# EAGLE library part ADTT1-1 (library NewSDR)
Minicircuits ADT Series Surface Mount Transformer with CT Primary and Secondary
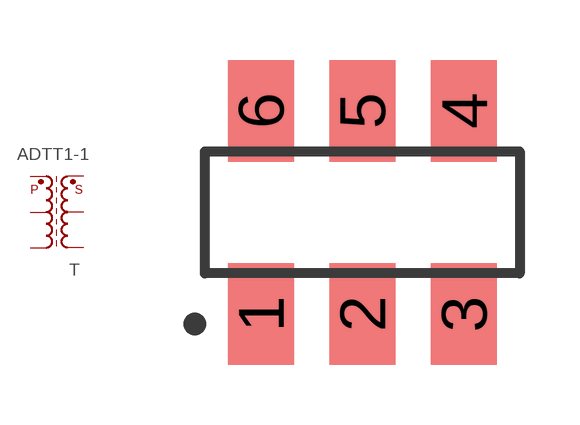
[diagram p8: symbol with the pads of ADT; footprint ADT]

Designator prefix T

## ADTT1-1  [ADT]
1  PRI  pas
2  PRICT  pas
3  PRIDOT  pas
4  SECDOT  pas
5  SECCT  pas
6  SEC  pas

## Footprint ADT (pad centres in mm)
Minicircuits ADT Series Surface Mount RF Transformers
smd 1.651 x 2.54: 1 -2.54,-2.54; 2 0,-2.54; 3 2.54,-2.54; 4 2.54,2.54; 5 0,2.54; 6 -2.54,2.54